# EAGLE library part 6PIN_JTAG (library Jtagheader)
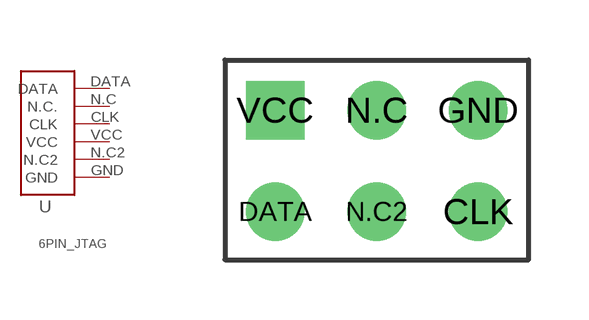
[diagram p0: symbol with the pads of 6PIN_JTAG; footprint 6PIN_JTAG]

Designator prefix -

## 6PIN_JTAG  [6PIN_JTAG]
CLK  CLK
DATA  DATA
GND  GND  pwr
N.C  N.C.  nc
N.C2  N.C2  nc
VCC  VCC  pwr

## Footprint 6PIN_JTAG (pad centres in mm)
drill 0.95: CLK 2.54,0; DATA -2.54,0; GND 2.54,2.54; N.C 0,2.54; N.C2 0,0
drill 0.95 square: VCC -2.54,2.54